# Altium schematic symbol library lcd.SchLib: 1 symbol
Pins are listed as number, name and electrical type; pins without a type are passive.

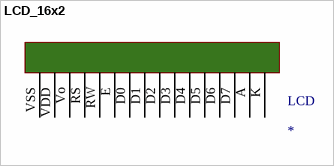
[diagram p0: symbol LCD_16x2]

## LCD_16x2
designator LCD
pins: A, D0, D1, D2, D3, D4, D5, D6, D7, E, K, RS, RW, VDD, Vo, VSS